# Altium schematic symbol library PGA113AIDGSR.SCHLIB: 1 symbol
Pins are listed as number, name and electrical type; pins without a type are passive.

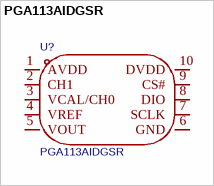
[diagram p0: symbol PGA113AIDGSR]

## PGA113AIDGSR
designator U?
Amplifier Type:PGA Number of Channels:2 Rail to Rail:Rail-to-Rail Input；Rail-to-Rail Output Output Current:60mA Current - Supply:1.1mA Operating Temperature:-40℃~+125℃ Operating Temperature:-40℃~+125℃ Vos - Input Offset Voltage:100uV Input Offset Voltage; Manufacturer: TI(德州仪器); AddInBom: yes; ModelId: 3e31ed6b36ca484795e6a68c51b575dc聨0819f05c4eef4c71ace90d822a990e87; ModelName: VSSOP-10_L3.0-W3.0-H1.1-LS4.9-P0.50; ModelTransform: 197.637,118.11,0,90,0,0,0,0,0; Amplifier Type: PGA; Number of Channels: 2; Output Current: 60mA; Current - Supply: 1.1mA; Vos - Input Offset Voltage: 100uV; Input Offset Voltage Drift(Vos TC): 1.2uV/℃; Ib - Input Bias Current: 5000pA; Input Offset Current(Ios): 5nA; Quiescent Current: 1100000nA; Single Supply: 2.2V~5.5V; Symbol: PGA113AIDGSR; Device: PGA113AIDGSR; LCSC Part Name: 零漂移可编程增益放大器; SupplierPart: C2057394; ManufacturerPart: PGA113AIDGSR; Supplier Footprint: VSSOP-10-0.5mm; JLCPCB Part Class: Extended Part; Datasheet: https://www.ti.com/cn/lit/gpn/pga112; Supplier: LCSC; ConvertToPcb: yes; FootprintName: VSSOP-10_L3.0-W3.0-P0.50-LS4.9-BL; Rail to Rail: Rail-to-Rail Input；Rail-to-Rail Output; Operating Temperature: -40℃~+125℃
footprint VSSOP-10_L3.0-W3.0-P0.50-LS4.9-BL
pins: 1 AVDD, 2 CH1, 3 VCAL/CH0, 4 VREF, 5 VOUT, 6 GND, 7 SCLK, 8 DIO, 9 CS#, 10 DVDD